# EAGLE library part LT8471 (library linear-technology)
DC/DC Converters Dual Multitopology with 2A Switches and Synchronization
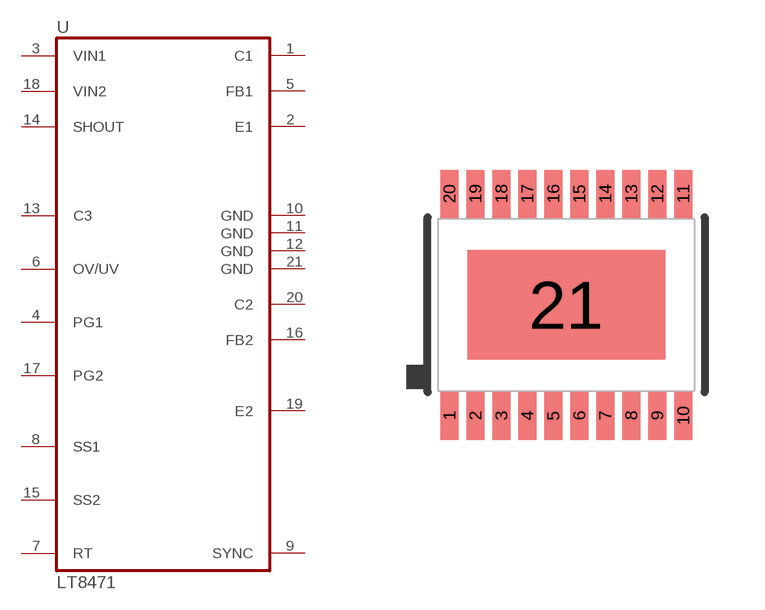
[diagram p61: symbol with the pads of TSSOP20-CB; footprint TSSOP20-CB]

Designator prefix U

## LT8471  [TSSOP20-CB]
1  C1  oc
2  E1  out
3  VIN1  in
4  PG1  oc
5  FB1  in
6  OV/UV  in
7  RT  in
8  SS1  in
9  SYNC
10  GND  pwr
11  GND  pwr
12  GND  pwr
13  C3  in
14  SHOUT  out
15  SS2  in
16  FB2  in
17  PG2  oc
18  VIN2  in
19  E2  out
20  C2  oc
21  GND  pwr

## Footprint TSSOP20-CB (pad centres in mm)
Thin Shrink Small Outline Plastic 20 FE Package 20-Lead Plastic TSSOP (4.4mm) (Reference LTC DWG # 05-08-1663 Rev J) Exposed Pad Variation CB
smd 0.45 x 1.2: 1 -2.925,-2.775; 2 -2.275,-2.775; 3 -1.625,-2.775; 4 -0.975,-2.775; 5 -0.325,-2.775; 6 0.325,-2.775; 7 0.975,-2.775; 8 1.625,-2.775; 9 2.275,-2.775; 10 2.925,-2.775; 11 2.925,2.775; 12 2.275,2.775; 13 1.625,2.775; 14 0.975,2.775; 15 0.325,2.775; 16 -0.325,2.775; 17 -0.975,2.775; 18 -1.625,2.775; 19 -2.275,2.775; 20 -2.925,2.775
smd 4.95 x 2.74: 21 0,0